# Altium schematic symbol library telemetry_component_lib.SchLib: 2 symbols
Pins are listed as number, name and electrical type; pins without a type are passive.

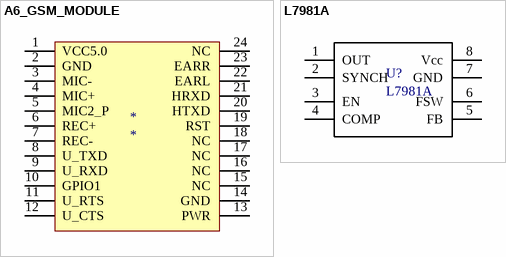
[diagram p0: symbols A6_GSM_MODULE to L7981A]

## A6_GSM_MODULE
designator *
pins: 1 VCC5.0, 2 GND, 3 MIC-, 4 MIC+, 5 MIC2_P, 6 REC+, 7 REC-, 8 U_TXD, 9 U_RXD, 10 GPIO1, 11 U_RTS, 12 U_CTS, 13 PWR, 14 GND, 15 NC, 16 NC, 17 NC, 18 NC, 19 RST, 20 HTXD, 21 HRXD, 22 EARL, 23 EARR, 24 NC

## L7981A
designator U?
3 A step-down switching regulator
pins: 1 OUT, 2 SYNCH, 3 EN "A logical signal (active high) enable the device. With EN higher than  1.2 V the device is ON and with EN is lower than 0.3 V the device is OFF.", 4 COMP "A logical signal (active high) enable the device. With EN higher than  1.2 V the device is ON and with EN is lower than 0.3 V the device is OFF.", 5 FB "Feedback input. Connecting the output voltage directly to this pin the  output voltage is regulated at 0.6 V. To have higher regulated voltages an  external resistor divider is required from Vout to the FB pin", 6 FSW, 7 GND (power), 8 Vcc (power)